# EAGLE library part USB (library BaseApp)
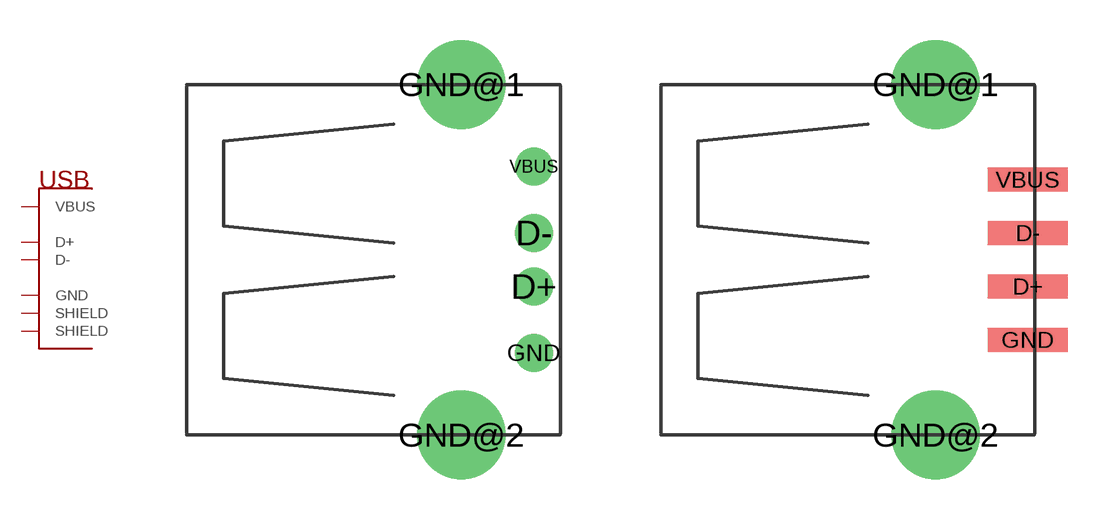
[diagram p15: symbol with the pads of USB-A-H; footprints USB-A-H, USB-A-S]

Designator prefix USB

## USB-A-H (DIGIKEY: ED2989-ND; PRICE_PER_UNIT: 0.48)  [USB-A-H]
D+  D+
D-  D-
GND  GND
GND@1  SHIELD
GND@2  SHIELD
VBUS  VBUS

## USB-A-S  [USB-A-S]
Pads as for USB-A-H

## USB-B-H  [USB-B-H]
Pads as for USB-A-H

## USB-VERTICAL (DIGIKEY: ED2987-ND; PRICE_PER_UNIT: 0.65)  [USB-A-H_V]
Pads as for USB-A-H

## Footprint USB-A-H (pad centres in mm)
drill 0.914: D+ 3.988,-1.003; D- 3.988,1.003; GND 3.988,-3.493; VBUS 3.988,3.493
drill 2.311: GND@1 1.27,6.566; GND@2 1.27,-6.566

## Footprint USB-A-S (pad centres in mm)
smd 3 x 0.9: D+ 4.72,-1; D- 4.72,1; GND 4.72,-3; VBUS 4.72,3
drill 2.311: GND@1 1.27,6.566; GND@2 1.27,-6.566

## Footprint USB-B-H (pad centres in mm)
drill 0.914: D+ 3.81,1.25; D- 5.791,1.25; GND 3.81,-1.25; VBUS 5.791,-1.25
drill 2.286: GND@1 1.092,6.02; GND@2 1.092,-6.02

## Footprint USB-A-H_V (pad centres in mm)
drill 0.914: D+ 1,2.718; D- -1,2.718; GND 3.5,2.718; VBUS -3.5,2.718
drill 2.311: GND@1 -6.57,0; GND@2 6.57,0